# EAGLE library part FINDER-43.61 (library relay2)
Low profile PCB relays 10 - 16 A FINDER 43 Series Kontakt max. AC- 250V, Strom - Kontakt AC- max. 10A 5 mm contact pin pitch, 1 Pole NO, 16 A, PCB mount Distributor: FARNELL Source: http://www.farnell.com/datasheets/87682.pdf
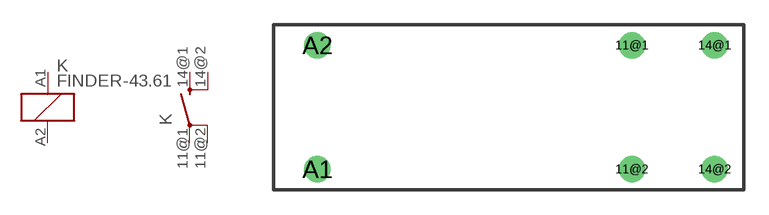
[diagram p133: symbol with the pads of FINDER-43.61; footprint FINDER-43.61]

Designator prefix K; gates K=K -1=S-X2

## FINDER-43.61 (OC_FARNELL: unknown; OC_NEWARK: unknown)  [FINDER-43.61]
11@1  -1:PA  pas
11@2  -1:PB  pas
14@1  -1:SA  pas
14@2  -1:SB  pas
A1  K:1  pas
A2  K:2  pas

## Footprint FINDER-43.61 (pad centres in mm)
Low profile PCB relays 10 - 16 A FINDER 43 Series Kontakt max. AC- 250V, Strom - Kontakt AC- max. 10A 5 mm contact pin pitch, 1 Pole NO, 16 A, PCB mount Distributor: FARNELL Source: http://www.farnell.com/datasheets/87682.pdf
drill 1 pad 1.6: 11@1 0,3.75; 11@2 0,-3.75; 14@1 5,3.75; 14@2 5,-3.75; A1 -19,-3.75; A2 -19,3.75